# Altium footprint library MergenElektronik_Regulators_Linears.PcbLib: 4 footprints
Each footprint in its own frame and in the unit in brackets; x right, y up, seen from the top. Pads: shape width x height; smd on the part's side, far side on the other; paste and mask are expansions set on the pad; w line width, h text height; cw(c..) or ccw(c..) is an arc to the next point about the centre after c.
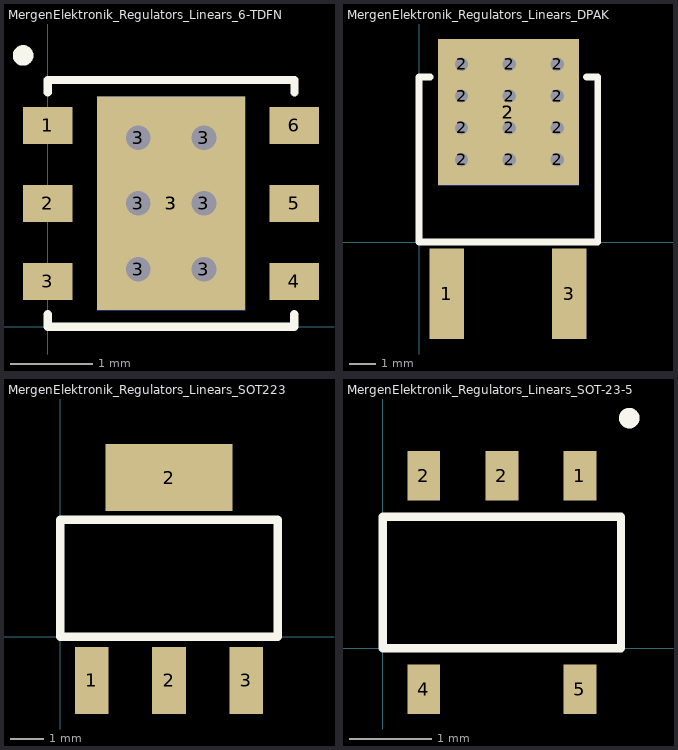
[diagram p0: the footprints below, top view; thin cyan lines are the x and y axes]

## MergenElektronik_Regulators_Linears_6-TDFN [mm] "6-TDFN"
pads (14):
  rect 0.6x0.45 smd: 1(0,2.45) 2(0,1.5) 3(0,0.55) 4(3,0.55) 5(3,1.5) 6(3,2.45)
  round 0.4 hole 0.3: 3(1.1,0.7) 3(1.1,1.5) 3(1.1,2.3) 3(1.9,0.7) 3(1.9,1.5) 3(1.9,2.3)
  rect 1.8x2.6 smd: 3(1.5,1.5)
  rect 1.8x2.6 smd far side: 3(1.5,1.5)
Top Overlay:
  circle w0.15: c-0.3,3.3 r0.05
  lines w0.1: 0,0.15 0,0 3,0 3,0.15 ; 0,2.85 0,3 3,3 3,2.85
3D body "MergenElektronik_Regulators_Linears_6-TDFN.step": height 0.8, standoff 0, extent 0,0 3,3

## MergenElektronik_Regulators_Linears_DPAK [mm] "DPAK"
pads (16):
  rect 1.3x3.4 smd: 1(1.05,-1.95) 3(5.65,-1.95)
  round 0.8 hole 0.5: 2(1.6,3.1) 2(1.6,4.3) 2(1.6,5.5) 2(1.6,6.7) 2(3.4,3.1) 2(3.4,4.3) 2(3.4,5.5) 2(3.4,6.7) 2(5.2,3.1) 2(5.2,4.3) 2(5.2,5.5) 2(5.2,6.7)
  rect 5.3x5.5 smd: 2(3.365,4.9)
  rect 5.3x5.5 smd far side: 2(3.365,4.9)
Top Overlay:
  lines w0.254: 0.42,6.22 0,6.22 0,0 6.73,0 6.73,6.22 6.31,6.22
3D body "TO-252AA-IRF.stp": height 2.39, standoff 0, extent 0.044,-2.807 6.756,7.607

## MergenElektronik_Regulators_Linears_SOT223 [mm] "SOT223"
pads (4):
  rect 1x2 smd: 1(0.95,-1.3) 2(3.25,-1.3) 3(5.55,-1.3)
  rect 3.8x2 smd: 2(3.25,4.75)
Top Overlay:
  lines w0.254: 0,0 6.5,0 6.5,3.5 0,3.5 0,0
3D body "SOT-223.step": height 1.8, standoff 0, extent 0.1,-1.6 6.4,5.1

## MergenElektronik_Regulators_Linears_SOT-23-5 [mm] "SOT-23-5"
pads (5):
  rect 0.4x0.6 smd: 1(2.4,2.1) 2(0.5,2.1) 2(1.45,2.1) 4(0.5,-0.5) 5(2.4,-0.5)
Top Overlay:
  circle w0.15: c3,2.8 r0.05
  lines w0.1: 0,0 2.9,0 2.9,1.6 0,1.6 0,0
3D body "MergenElektronik_Regulators_Linears_SOT-23-5.step": height 1.45, standoff 0, extent 0,-0.55 2.9,2.15